# Altium schematic symbol library CC0603KRX5R6BB106.SchLib: 1 symbol
Pins are listed as number, name and electrical type; pins without a type are passive.

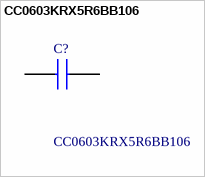
[diagram p0: symbol CC0603KRX5R6BB106]

## CC0603KRX5R6BB106
designator C?
Multilayer Ceramic Capacitors MLCC - SMD/SMT 10UF     10V   10%        0603; Manufacturer_Name: Yageo Group; Geometry.Height: 1mm; Mouser Part Number: 603-CC603KRX5R6BB106; Mouser Price/Stock: https://www.mouser.co.uk/ProductDetail/YAGEO/CC0603KRX5R6BB106?qs=xUHcaXrTGSp1z%252B%2FOujzENw%3D%3D; Manufacturer_Part_Number: CC0603KRX5R6BB106; Datasheet Link: https://www.yageo.com/upload/media/product/productsearch/datasheet/mlcc/UPY-GPHC_X5R_4V-to-50V_30.pdf
footprint CAPC1608X100N
pins: 1, 2